# Altium schematic symbol library GPS-ANTENNA.SchLib: 1 symbol
Pins are listed as number, name and electrical type; pins without a type are passive.

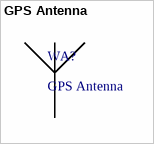
[diagram p0: symbol GPS Antenna]

## GPS Antenna
designator WA?
footprint Model Name (Footprint not found)
pins: 1 GPS ANT